# EAGLE library part C-5353652-36-3 (library con-tyco)
ETX Express COM Express Auto generated by make-symbol-device-package-bsdl.ulp Rev. 27 Source: http://catalog.tycoelectronics.com .. ENG_CS_889092_0.5mm_FH_Conn_0906.pdf http://nordic.kontron.com/searchresult/?searchterm=etxe_designguide_v1.4.pdf
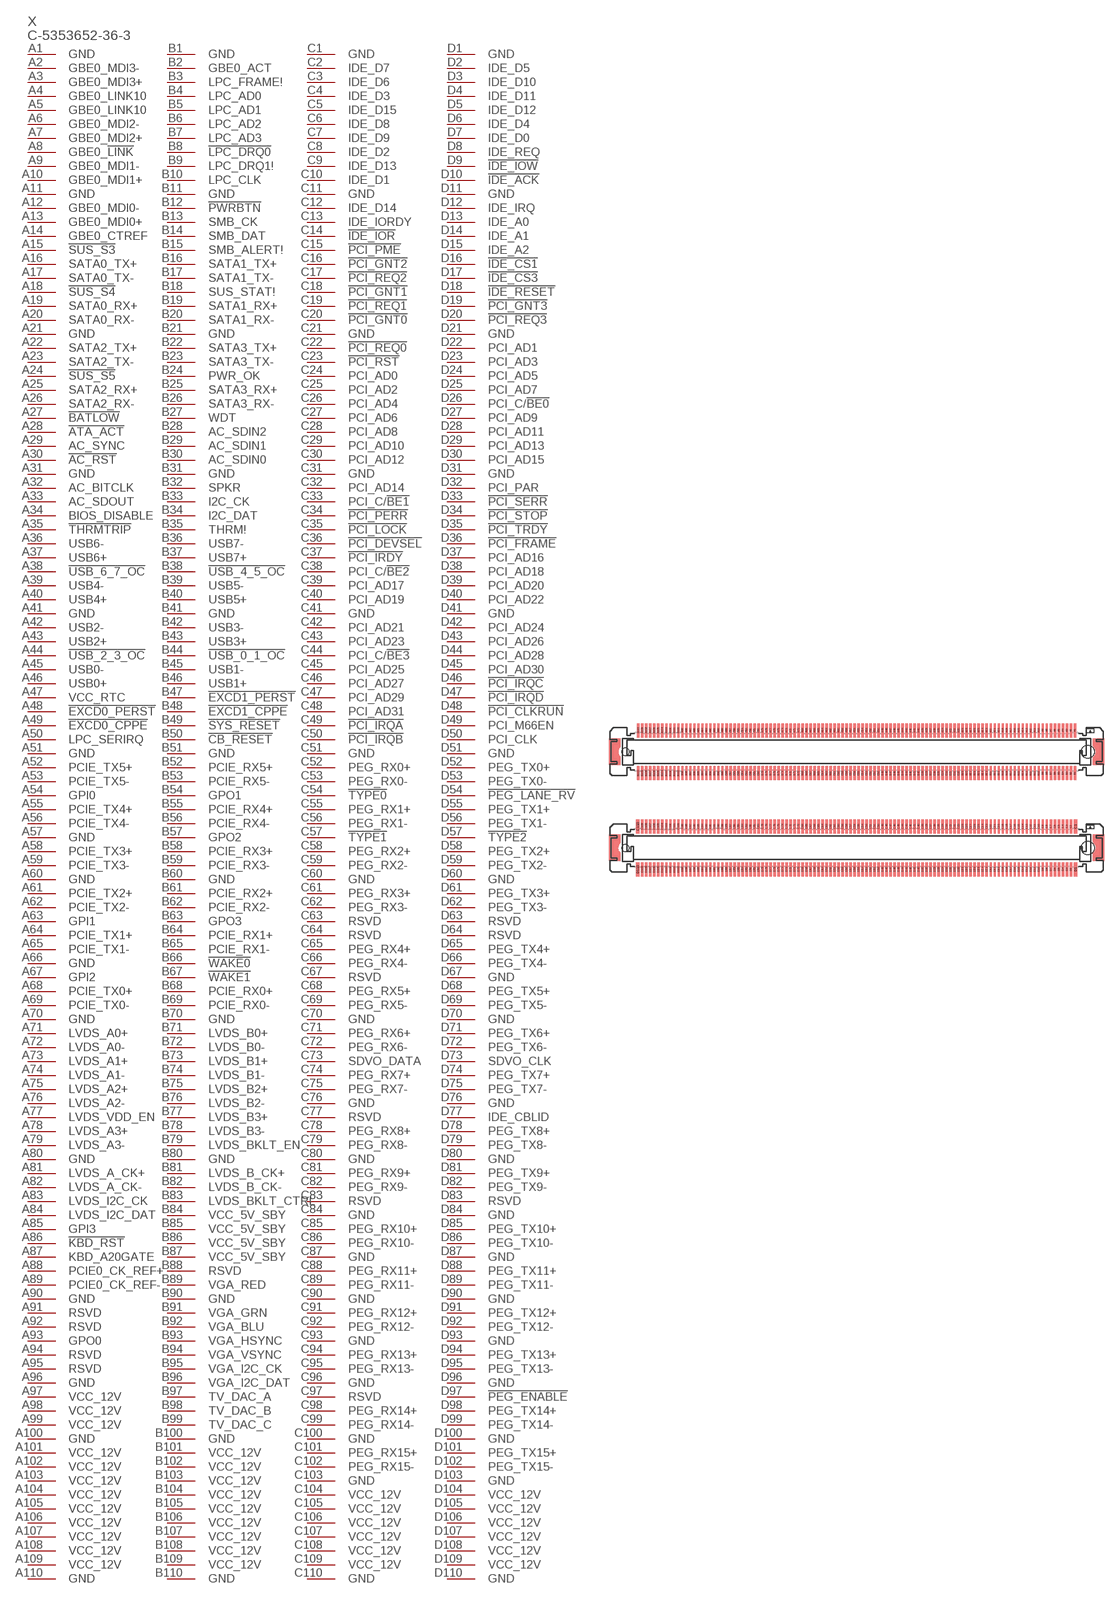
[diagram p5: symbol with the pads of C-5353652-36-3; footprint C-5353652-36-3]

Designator prefix X

## C-5353652-36-3 (OC_FARNELL: unknown; OC_NEWARK: unknown)  [C-5353652-36-3]
A1  GND  pas
A2  GBE0_MDI3-  pas
A3  GBE0_MDI3+  pas
A4  GBE0_LINK10  pas
A5  GBE0_LINK10  pas
A6  GBE0_MDI2-  pas
A7  GBE0_MDI2+  pas
A8  GBE0_!LINK  pas
A9  GBE0_MDI1-  pas
A10  GBE0_MDI1+  pas
A11  GND  pas
A12  GBE0_MDI0-  pas
A13  GBE0_MDI0+  pas
A14  GBE0_CTREF  pas
A15  !SUS_S3  pas
A16  SATA0_TX+  pas
A17  SATA0_TX-  pas
A18  !SUS_S4  pas
A19  SATA0_RX+  pas
A20  SATA0_RX-  pas
A21  GND  pas
A22  SATA2_TX+  pas
A23  SATA2_TX-  pas
A24  !SUS_S5  pas
A25  SATA2_RX+  pas
A26  SATA2_RX-  pas
A27  !BATLOW  pas
A28  !ATA_ACT  pas
A29  AC_SYNC  pas
A30  !AC_RST  pas
A31  GND  pas
A32  AC_BITCLK  pas
A33  AC_SDOUT  pas
A34  BIOS_DISABLE  pas
A35  !THRMTRIP  pas
A36  USB6-  pas
A37  USB6+  pas
A38  !USB_6_7_OC  pas
A39  USB4-  pas
A40  USB4+  pas
A41  GND  pas
A42  USB2-  pas
A43  USB2+  pas
A44  !USB_2_3_OC  pas
A45  USB0-  pas
A46  USB0+  pas
A47  VCC_RTC  pas
A48  !EXCD0_PERST  pas
A49  !EXCD0_CPPE  pas
A50  LPC_SERIRQ  pas
A51  GND  pas
A52  PCIE_TX5+  pas
A53  PCIE_TX5-  pas
A54  GPI0  pas
A55  PCIE_TX4+  pas
A56  PCIE_TX4-  pas
A57  GND  pas
A58  PCIE_TX3+  pas
A59  PCIE_TX3-  pas
A60  GND  pas
A61  PCIE_TX2+  pas
A62  PCIE_TX2-  pas
A63  GPI1  pas
A64  PCIE_TX1+  pas
A65  PCIE_TX1-  pas
A66  GND  pas
A67  GPI2  pas
A68  PCIE_TX0+  pas
A69  PCIE_TX0-  pas
A70  GND  pas
A71  LVDS_A0+  pas
A72  LVDS_A0-  pas
A73  LVDS_A1+  pas
A74  LVDS_A1-  pas
A75  LVDS_A2+  pas
A76  LVDS_A2-  pas
A77  LVDS_VDD_EN  pas
A78  LVDS_A3+  pas
A79  LVDS_A3-  pas
A80  GND  pas
A81  LVDS_A_CK+  pas
A82  LVDS_A_CK-  pas
A83  LVDS_I2C_CK  pas
A84  LVDS_I2C_DAT  pas
A85  GPI3  pas
A86  !KBD_RST  pas
A87  KBD_A20GATE  pas
A88  PCIE0_CK_REF+  pas
A89  PCIE0_CK_REF-  pas
A90  GND  pas
A91  RSVD  pas
A92  RSVD  pas
A93  GPO0  pas
A94  RSVD  pas
A95  RSVD  pas
A96  GND  pas
A97  VCC_12V  pas
A98  VCC_12V  pas
A99  VCC_12V  pas
A100  GND  pas
A101  VCC_12V  pas
A102  VCC_12V  pas
A103  VCC_12V  pas
A104  VCC_12V  pas
A105  VCC_12V  pas
A106  VCC_12V  pas
A107  VCC_12V  pas
A108  VCC_12V  pas
A109  VCC_12V  pas
A110  GND  pas
B1  GND  pas
B2  GBE0_ACT  pas
B3  LPC_FRAME!  pas
B4  LPC_AD0  pas
B5  LPC_AD1  pas
B6  LPC_AD2  pas
B7  LPC_AD3  pas
B8  !LPC_DRQ0  pas
B9  LPC_DRQ1!  pas
B10  LPC_CLK  pas
B11  GND  pas
B12  !PWRBTN  pas
B13  SMB_CK  pas
B14  SMB_DAT  pas
B15  SMB_ALERT!  pas
B16  SATA1_TX+  pas
B17  SATA1_TX-  pas
B18  SUS_STAT!  pas
B19  SATA1_RX+  pas
B20  SATA1_RX-  pas
B21  GND  pas
B22  SATA3_TX+  pas
B23  SATA3_TX-  pas
B24  PWR_OK  pas
B25  SATA3_RX+  pas
B26  SATA3_RX-  pas
B27  WDT  pas
B28  AC_SDIN2  pas
B29  AC_SDIN1  pas
B30  AC_SDIN0  pas
B31  GND  pas
B32  SPKR  pas
B33  I2C_CK  pas
B34  I2C_DAT  pas
B35  THRM!  pas
B36  USB7-  pas
B37  USB7+  pas
B38  !USB_4_5_OC  pas
B39  USB5-  pas
B40  USB5+  pas
B41  GND  pas
B42  USB3-  pas
B43  USB3+  pas
B44  !USB_0_1_OC  pas
B45  USB1-  pas
B46  USB1+  pas
B47  !EXCD1_PERST  pas
B48  !EXCD1_CPPE  pas
B49  !SYS_RESET  pas
B50  !CB_RESET  pas
B51  GND  pas
B52  PCIE_RX5+  pas
B53  PCIE_RX5-  pas
B54  GPO1  pas
B55  PCIE_RX4+  pas
B56  PCIE_RX4-  pas
B57  GPO2  pas
B58  PCIE_RX3+  pas
B59  PCIE_RX3-  pas
B60  GND  pas
B61  PCIE_RX2+  pas
B62  PCIE_RX2-  pas
B63  GPO3  pas
B64  PCIE_RX1+  pas
B65  PCIE_RX1-  pas
B66  !WAKE0  pas
B67  !WAKE1  pas
B68  PCIE_RX0+  pas
B69  PCIE_RX0-  pas
B70  GND  pas
B71  LVDS_B0+  pas
B72  LVDS_B0-  pas
B73  LVDS_B1+  pas
B74  LVDS_B1-  pas
B75  LVDS_B2+  pas
B76  LVDS_B2-  pas
B77  LVDS_B3+  pas
B78  LVDS_B3-  pas
B79  LVDS_BKLT_EN  pas
B80  GND  pas
B81  LVDS_B_CK+  pas
B82  LVDS_B_CK-  pas
B83  LVDS_BKLT_CTRL  pas
B84  VCC_5V_SBY  pas
B85  VCC_5V_SBY  pas
B86  VCC_5V_SBY  pas
B87  VCC_5V_SBY  pas
B88  RSVD  pas
B89  VGA_RED  pas
B90  GND  pas
B91  VGA_GRN  pas
B92  VGA_BLU  pas
B93  VGA_HSYNC  pas
B94  VGA_VSYNC  pas
B95  VGA_I2C_CK  pas
B96  VGA_I2C_DAT  pas
B97  TV_DAC_A  pas
B98  TV_DAC_B  pas
B99  TV_DAC_C  pas
B100  GND  pas
B101  VCC_12V  pas
B102  VCC_12V  pas
B103  VCC_12V  pas
B104  VCC_12V  pas
B105  VCC_12V  pas
B106  VCC_12V  pas
B107  VCC_12V  pas
B108  VCC_12V  pas
B109  VCC_12V  pas
B110  GND  pas
C1  GND  pas
C2  IDE_D7  pas
C3  IDE_D6  pas
C4  IDE_D3  pas
C5  IDE_D15  pas
C6  IDE_D8  pas
C7  IDE_D9  pas
C8  IDE_D2  pas
C9  IDE_D13  pas
C10  IDE_D1  pas
C11  GND  pas
C12  IDE_D14  pas
C13  IDE_IORDY  pas
C14  !IDE_IOR  pas
C15  !PCI_PME  pas
C16  !PCI_GNT2  pas
C17  !PCI_REQ2  pas
C18  !PCI_GNT1  pas
C19  !PCI_REQ1  pas
C20  !PCI_GNT0  pas
C21  GND  pas
C22  !PCI_REQ0  pas
C23  !PCI_RST  pas
C24  PCI_AD0  pas
C25  PCI_AD2  pas
C26  PCI_AD4  pas
C27  PCI_AD6  pas
C28  PCI_AD8  pas
C29  PCI_AD10  pas
C30  PCI_AD12  pas
C31  GND  pas
C32  PCI_AD14  pas
C33  PCI_C/!BE1  pas
C34  !PCI_PERR  pas
C35  !PCI_LOCK  pas
C36  !PCI_DEVSEL  pas
C37  !PCI_IRDY  pas
C38  PCI_C/!BE2  pas
C39  PCI_AD17  pas
C40  PCI_AD19  pas
C41  GND  pas
C42  PCI_AD21  pas
C43  PCI_AD23  pas
C44  PCI_C/!BE3  pas
C45  PCI_AD25  pas
C46  PCI_AD27  pas
C47  PCI_AD29  pas
C48  PCI_AD31  pas
C49  !PCI_IRQA  pas
C50  !PCI_IRQB  pas
C51  GND  pas
C52  PEG_RX0+  pas
C53  PEG_RX0-  pas
C54  !TYPE0  pas
C55  PEG_RX1+  pas
C56  PEG_RX1-  pas
C57  !TYPE1  pas
C58  PEG_RX2+  pas
C59  PEG_RX2-  pas
C60  GND  pas
C61  PEG_RX3+  pas
C62  PEG_RX3-  pas
C63  RSVD  pas
C64  RSVD  pas
C65  PEG_RX4+  pas
C66  PEG_RX4-  pas
C67  RSVD  pas
C68  PEG_RX5+  pas
C69  PEG_RX5-  pas
C70  GND  pas
C71  PEG_RX6+  pas
C72  PEG_RX6-  pas
C73  SDVO_DATA  pas
C74  PEG_RX7+  pas
C75  PEG_RX7-  pas
C76  GND  pas
C77  RSVD  pas
C78  PEG_RX8+  pas
C79  PEG_RX8-  pas
C80  GND  pas
C81  PEG_RX9+  pas
C82  PEG_RX9-  pas
C83  RSVD  pas
C84  GND  pas
C85  PEG_RX10+  pas
C86  PEG_RX10-  pas
C87  GND  pas
C88  PEG_RX11+  pas
C89  PEG_RX11-  pas
C90  GND  pas
C91  PEG_RX12+  pas
C92  PEG_RX12-  pas
C93  GND  pas
C94  PEG_RX13+  pas
C95  PEG_RX13-  pas
C96  GND  pas
C97  RSVD  pas
C98  PEG_RX14+  pas
C99  PEG_RX14-  pas
C100  GND  pas
C101  PEG_RX15+  pas
C102  PEG_RX15-  pas
C103  GND  pas
C104  VCC_12V  pas
C105  VCC_12V  pas
C106  VCC_12V  pas
C107  VCC_12V  pas
C108  VCC_12V  pas
C109  VCC_12V  pas
C110  GND  pas
D1  GND  pas
D2  IDE_D5  pas
D3  IDE_D10  pas
D4  IDE_D11  pas
D5  IDE_D12  pas
D6  IDE_D4  pas
D7  IDE_D0  pas
D8  IDE_REQ  pas
D9  !IDE_IOW  pas
D10  !IDE_ACK  pas
D11  GND  pas
D12  IDE_IRQ  pas
D13  IDE_A0  pas
D14  IDE_A1  pas
D15  IDE_A2  pas
D16  !IDE_CS1  pas
D17  !IDE_CS3  pas
D18  !IDE_RESET  pas
D19  !PCI_GNT3  pas
D20  !PCI_REQ3  pas
D21  GND  pas
D22  PCI_AD1  pas
D23  PCI_AD3  pas
D24  PCI_AD5  pas
D25  PCI_AD7  pas
D26  PCI_C/!BE0  pas
D27  PCI_AD9  pas
D28  PCI_AD11  pas
D29  PCI_AD13  pas
D30  PCI_AD15  pas
D31  GND  pas
D32  PCI_PAR  pas
D33  !PCI_SERR  pas
D34  !PCI_STOP  pas
D35  !PCI_TRDY  pas
D36  !PCI_FRAME  pas
D37  PCI_AD16  pas
D38  PCI_AD18  pas
D39  PCI_AD20  pas
D40  PCI_AD22  pas
D41  GND  pas
D42  PCI_AD24  pas
D43  PCI_AD26  pas
D44  PCI_AD28  pas
D45  PCI_AD30  pas
D46  !PCI_IRQC  pas
D47  !PCI_IRQD  pas
D48  !PCI_CLKRUN  pas
D49  PCI_M66EN  pas
D50  PCI_CLK  pas
D51  GND  pas
D52  PEG_TX0+  pas
D53  PEG_TX0-  pas
D54  !PEG_LANE_RV  pas
D55  PEG_TX1+  pas
D56  PEG_TX1-  pas
D57  !TYPE2  pas
D58  PEG_TX2+  pas
D59  PEG_TX2-  pas
D60  GND  pas
D61  PEG_TX3+  pas
D62  PEG_TX3-  pas
D63  RSVD  pas
D64  RSVD  pas
D65  PEG_TX4+  pas
D66  PEG_TX4-  pas
D67  GND  pas
D68  PEG_TX5+  pas
D69  PEG_TX5-  pas
D70  GND  pas
D71  PEG_TX6+  pas
D72  PEG_TX6-  pas
D73  SDVO_CLK  pas
D74  PEG_TX7+  pas
D75  PEG_TX7-  pas
D76  GND  pas
D77  IDE_CBLID  pas
D78  PEG_TX8+  pas
D79  PEG_TX8-  pas
D80  GND  pas
D81  PEG_TX9+  pas
D82  PEG_TX9-  pas
D83  RSVD  pas
D84  GND  pas
D85  PEG_TX10+  pas
D86  PEG_TX10-  pas
D87  GND  pas
D88  PEG_TX11+  pas
D89  PEG_TX11-  pas
D90  GND  pas
D91  PEG_TX12+  pas
D92  PEG_TX12-  pas
D93  GND  pas
D94  PEG_TX13+  pas
D95  PEG_TX13-  pas
D96  GND  pas
D97  !PEG_ENABLE  pas
D98  PEG_TX14+  pas
D99  PEG_TX14-  pas
D100  GND  pas
D101  PEG_TX15+  pas
D102  PEG_TX15-  pas
D103  GND  pas
D104  VCC_12V  pas
D105  VCC_12V  pas
D106  VCC_12V  pas
D107  VCC_12V  pas
D108  VCC_12V  pas
D109  VCC_12V  pas
D110  GND  pas

## Footprint C-5353652-36-3 (pad centres in mm)
ComExpress (ETXexpress) Source: http://catalog.tycoelectronics.com .. ENG_CS_889092_0.5mm_FH_Conn_0906.pdf
smd 0.3 x 1.75: A1 27.25,8.675; A2 26.75,8.675; A3 26.25,8.675; A4 25.75,8.675; A5 25.25,8.675; A6 24.75,8.675; A7 24.25,8.675; A8 23.75,8.675; A9 23.25,8.675; A10 22.75,8.675; A11 22.25,8.675; A12 21.75,8.675; A13 21.25,8.675; A14 20.75,8.675; A15 20.25,8.675; A16 19.75,8.675; A17 19.25,8.675; A18 18.75,8.675; A19 18.25,8.675; A20 17.75,8.675; A21 17.25,8.675; A22 16.75,8.675; A23 16.25,8.675; A24 15.75,8.675; A25 15.25,8.675; A26 14.75,8.675; A27 14.25,8.675; A28 13.75,8.675; A29 13.25,8.675; A30 12.75,8.675; A31 12.25,8.675; A32 11.75,8.675; A33 11.25,8.675; A34 10.75,8.675; A35 10.25,8.675; A36 9.75,8.675; A37 9.25,8.675; A38 8.75,8.675; A39 8.25,8.675; A40 7.75,8.675; A41 7.25,8.675; A42 6.75,8.675; A43 6.25,8.675; A44 5.75,8.675; A45 5.25,8.675; A46 4.75,8.675; A47 4.25,8.675; A48 3.75,8.675; A49 3.25,8.675; A50 2.75,8.675; A51 2.25,8.675; A52 1.75,8.675; A53 1.25,8.675; A54 0.75,8.675; A55 0.25,8.675; A56 -0.25,8.675; A57 -0.75,8.675; A58 -1.25,8.675; A59 -1.75,8.675; A60 -2.25,8.675; A61 -2.75,8.675; A62 -3.25,8.675; A63 -3.75,8.675; A64 -4.25,8.675; A65 -4.75,8.675; A66 -5.25,8.675; A67 -5.75,8.675; A68 -6.25,8.675; A69 -6.75,8.675; A70 -7.25,8.675; A71 -7.75,8.675; A72 -8.25,8.675; A73 -8.75,8.675; A74 -9.25,8.675; A75 -9.75,8.675; A76 -10.25,8.675; A77 -10.75,8.675; A78 -11.25,8.675; A79 -11.75,8.675; A80 -12.25,8.675; A81 -12.75,8.675; A82 -13.25,8.675; A83 -13.75,8.675; A84 -14.25,8.675; A85 -14.75,8.675; A86 -15.25,8.675; A87 -15.75,8.675; A88 -16.25,8.675; A89 -16.75,8.675; A90 -17.25,8.675; A91 -17.75,8.675; A92 -18.25,8.675; A93 -18.75,8.675; A94 -19.25,8.675; A95 -19.75,8.675; A96 -20.25,8.675; A97 -20.75,8.675; A98 -21.25,8.675; A99 -21.75,8.675; A100 -22.25,8.675; A101 -22.75,8.675; A102 -23.25,8.675; A103 -23.75,8.675; A104 -24.25,8.675; A105 -24.75,8.675; A106 -25.25,8.675; A107 -25.75,8.675; A108 -26.25,8.675; A109 -26.75,8.675; A110 -27.25,8.675; B1 27.25,3.325; B2 26.75,3.325; B3 26.25,3.325; B4 25.75,3.325; B5 25.25,3.325; B6 24.75,3.325; B7 24.25,3.325; B8 23.75,3.325; B9 23.25,3.325; B10 22.75,3.325; B11 22.25,3.325; B12 21.75,3.325; B13 21.25,3.325; B14 20.75,3.325; B15 20.25,3.325; B16 19.75,3.325; B17 19.25,3.325; B18 18.75,3.325; B19 18.25,3.325; B20 17.75,3.325; B21 17.25,3.325; B22 16.75,3.325; B23 16.25,3.325; B24 15.75,3.325; B25 15.25,3.325; B26 14.75,3.325; B27 14.25,3.325; B28 13.75,3.325; B29 13.25,3.325; B30 12.75,3.325; B31 12.25,3.325; B32 11.75,3.325; B33 11.25,3.325; B34 10.75,3.325; B35 10.25,3.325; B36 9.75,3.325; B37 9.25,3.325; B38 8.75,3.325; B39 8.25,3.325; B40 7.75,3.325; B41 7.25,3.325; B42 6.75,3.325; B43 6.25,3.325; B44 5.75,3.325; B45 5.25,3.325; B46 4.75,3.325; B47 4.25,3.325; B48 3.75,3.325; B49 3.25,3.325; B50 2.75,3.325; B51 2.25,3.325; B52 1.75,3.325; B53 1.25,3.325; B54 0.75,3.325; B55 0.25,3.325; B56 -0.25,3.325; B57 -0.75,3.325; B58 -1.25,3.325; B59 -1.75,3.325; B60 -2.25,3.325; B61 -2.75,3.325; B62 -3.25,3.325; B63 -3.75,3.325; B64 -4.25,3.325; B65 -4.75,3.325; B66 -5.25,3.325; B67 -5.75,3.325; B68 -6.25,3.325; B69 -6.75,3.325; B70 -7.25,3.325; B71 -7.75,3.325; B72 -8.25,3.325; B73 -8.75,3.325; B74 -9.25,3.325; B75 -9.75,3.325; B76 -10.25,3.325; B77 -10.75,3.325; B78 -11.25,3.325; B79 -11.75,3.325; B80 -12.25,3.325; B81 -12.75,3.325; B82 -13.25,3.325; B83 -13.75,3.325; B84 -14.25,3.325; B85 -14.75,3.325; B86 -15.25,3.325; B87 -15.75,3.325; B88 -16.25,3.325; B89 -16.75,3.325; B90 -17.25,3.325; B91 -17.75,3.325; B92 -18.25,3.325; B93 -18.75,3.325; B94 -19.25,3.325; B95 -19.75,3.325; B96 -20.25,3.325; B97 -20.75,3.325; B98 -21.25,3.325; B99 -21.75,3.325; B100 -22.25,3.325; B101 -22.75,3.325; B102 -23.25,3.325; B103 -23.75,3.325; B104 -24.25,3.325; B105 -24.75,3.325; B106 -25.25,3.325; B107 -25.75,3.325; B108 -26.25,3.325; B109 -26.75,3.325; B110 -27.25,3.325; C2 26.75,-3.325; C3 26.25,-3.325; C4 25.75,-3.325; C5 25.25,-3.325; C6 24.75,-3.325; C7 24.25,-3.325; C8 23.75,-3.325; C9 23.25,-3.325; C10 22.75,-3.325; C11 22.25,-3.325; C12 21.75,-3.325; C13 21.25,-3.325; C14 20.75,-3.325; C15 20.25,-3.325; C16 19.75,-3.325; C17 19.25,-3.325; C18 18.75,-3.325; C19 18.25,-3.325; C20 17.75,-3.325; C21 17.25,-3.325; C22 16.75,-3.325; C23 16.25,-3.325; C24 15.75,-3.325; C25 15.25,-3.325; C26 14.75,-3.325; C27 14.25,-3.325; C28 13.75,-3.325; C29 13.25,-3.325; C30 12.75,-3.325; C31 12.25,-3.325; C32 11.75,-3.325; C33 11.25,-3.325; C34 10.75,-3.325; C35 10.25,-3.325; C36 9.75,-3.325; C37 9.25,-3.325; C38 8.75,-3.325; C39 8.25,-3.325; C40 7.75,-3.325; C41 7.25,-3.325; C42 6.75,-3.325; C43 6.25,-3.325; C44 5.75,-3.325; C45 5.25,-3.325; C46 4.75,-3.325; C47 4.25,-3.325; C48 3.75,-3.325; C49 3.25,-3.325; C50 2.75,-3.325; C51 2.25,-3.325; C52 1.75,-3.325; C53 1.25,-3.325; C54 0.75,-3.325; C55 0.25,-3.325; C56 -0.25,-3.325; C57 -0.75,-3.325; C58 -1.25,-3.325; C59 -1.75,-3.325; C60 -2.25,-3.325; C61 -2.75,-3.325; C62 -3.25,-3.325; C63 -3.75,-3.325; C64 -4.25,-3.325; C65 -4.75,-3.325; C66 -5.25,-3.325; C67 -5.75,-3.325; C68 -6.25,-3.325; C69 -6.75,-3.325; C70 -7.25,-3.325; C71 -7.75,-3.325; C72 -8.25,-3.325; C73 -8.75,-3.325; C74 -9.25,-3.325; C75 -9.75,-3.325; C76 -10.25,-3.325; C77 -10.75,-3.325; C78 -11.25,-3.325; C79 -11.75,-3.325; C80 -12.25,-3.325; C81 -12.75,-3.325; C82 -13.25,-3.325; C83 -13.75,-3.325; C84 -14.25,-3.325; C85 -14.75,-3.325; C86 -15.25,-3.325; C87 -15.75,-3.325; C88 -16.25,-3.325; C89 -16.75,-3.325; C90 -17.25,-3.325; C91 -17.75,-3.325; C92 -18.25,-3.325; C93 -18.75,-3.325; C94 -19.25,-3.325; C95 -19.75,-3.325; C96 -20.25,-3.325; C97 -20.75,-3.325; C98 -21.25,-3.325; C99 -21.75,-3.325; C100 -22.25,-3.325; C101 -22.75,-3.325; C102 -23.25,-3.325; C103 -23.75,-3.325; C104 -24.25,-3.325; C105 -24.75,-3.325; C106 -25.25,-3.325; C107 -25.75,-3.325; C108 -26.25,-3.325; C109 -26.75,-3.325; D2 26.75,-8.675; D3 26.25,-8.675; D4 25.75,-8.675; D5 25.25,-8.675; D6 24.75,-8.675; D7 24.25,-8.675; D8 23.75,-8.675; D9 23.25,-8.675; D10 22.75,-8.675; D11 22.25,-8.675; D12 21.75,-8.675; D13 21.25,-8.675; D14 20.75,-8.675; D15 20.25,-8.675; D16 19.75,-8.675; D17 19.25,-8.675; D18 18.75,-8.675; D19 18.25,-8.675; D20 17.75,-8.675; D21 17.25,-8.675; D22 16.75,-8.675; D23 16.25,-8.675; D24 15.75,-8.675; D25 15.25,-8.675; D26 14.75,-8.675; D27 14.25,-8.675; D28 13.75,-8.675; D29 13.25,-8.675; D30 12.75,-8.675; D31 12.25,-8.675; D32 11.75,-8.675; D33 11.25,-8.675; D34 10.75,-8.675; D35 10.25,-8.675; D36 9.75,-8.675; D37 9.25,-8.675; D38 8.75,-8.675; D39 8.25,-8.675; D40 7.75,-8.675; D41 7.25,-8.675; D42 6.75,-8.675; D43 6.25,-8.675; D44 5.75,-8.675; D45 5.25,-8.675; D46 4.75,-8.675; D47 4.25,-8.675; D48 3.75,-8.675; D49 3.25,-8.675; D50 2.75,-8.675; D51 2.25,-8.675; D52 1.75,-8.675; D53 1.25,-8.675; D54 0.75,-8.675; D55 0.25,-8.675; D56 -0.25,-8.675; D57 -0.75,-8.675; D58 -1.25,-8.675; D59 -1.75,-8.675; D60 -2.25,-8.675; D61 -2.75,-8.675; D62 -3.25,-8.675; D63 -3.75,-8.675; D64 -4.25,-8.675; D65 -4.75,-8.675; D66 -5.25,-8.675; D67 -5.75,-8.675; D68 -6.25,-8.675; D69 -6.75,-8.675; D70 -7.25,-8.675; D71 -7.75,-8.675; D72 -8.25,-8.675; D73 -8.75,-8.675; D74 -9.25,-8.675; D75 -9.75,-8.675; D76 -10.25,-8.675; D77 -10.75,-8.675; D78 -11.25,-8.675; D79 -11.75,-8.675; D80 -12.25,-8.675; D81 -12.75,-8.675; D82 -13.25,-8.675; D83 -13.75,-8.675; D84 -14.25,-8.675; D85 -14.75,-8.675; D86 -15.25,-8.675; D87 -15.75,-8.675; D88 -16.25,-8.675; D89 -16.75,-8.675; D90 -17.25,-8.675; D91 -17.75,-8.675; D92 -18.25,-8.675; D93 -18.75,-8.675; D94 -19.25,-8.675; D95 -19.75,-8.675; D96 -20.25,-8.675; D97 -20.75,-8.675; D98 -21.25,-8.675; D99 -21.75,-8.675; D100 -22.25,-8.675; D101 -22.75,-8.675; D102 -23.25,-8.675; D103 -23.75,-8.675; D104 -24.25,-8.675; D105 -24.75,-8.675; D106 -25.25,-8.675; D107 -25.75,-8.675; D108 -26.25,-8.675; D109 -26.75,-8.675
smd 0.45 x 1.75: C1 27.325,-3.325; C110 -27.325,-3.325; D1 27.325,-8.675; D110 -27.325,-8.675
hole 0.9 at -28.85,-6
hole 1.6 at 28.85,-6
hole 0.9 at -28.85,6
hole 1.6 at 28.85,6
hole 0.9 at -28.85,-6
hole 1.6 at 28.85,-6